# Altium integrated library Analog Devices Data Converters Analog-to-Digital Converters.IntLib: 2404 symbols (part 314 of 346)
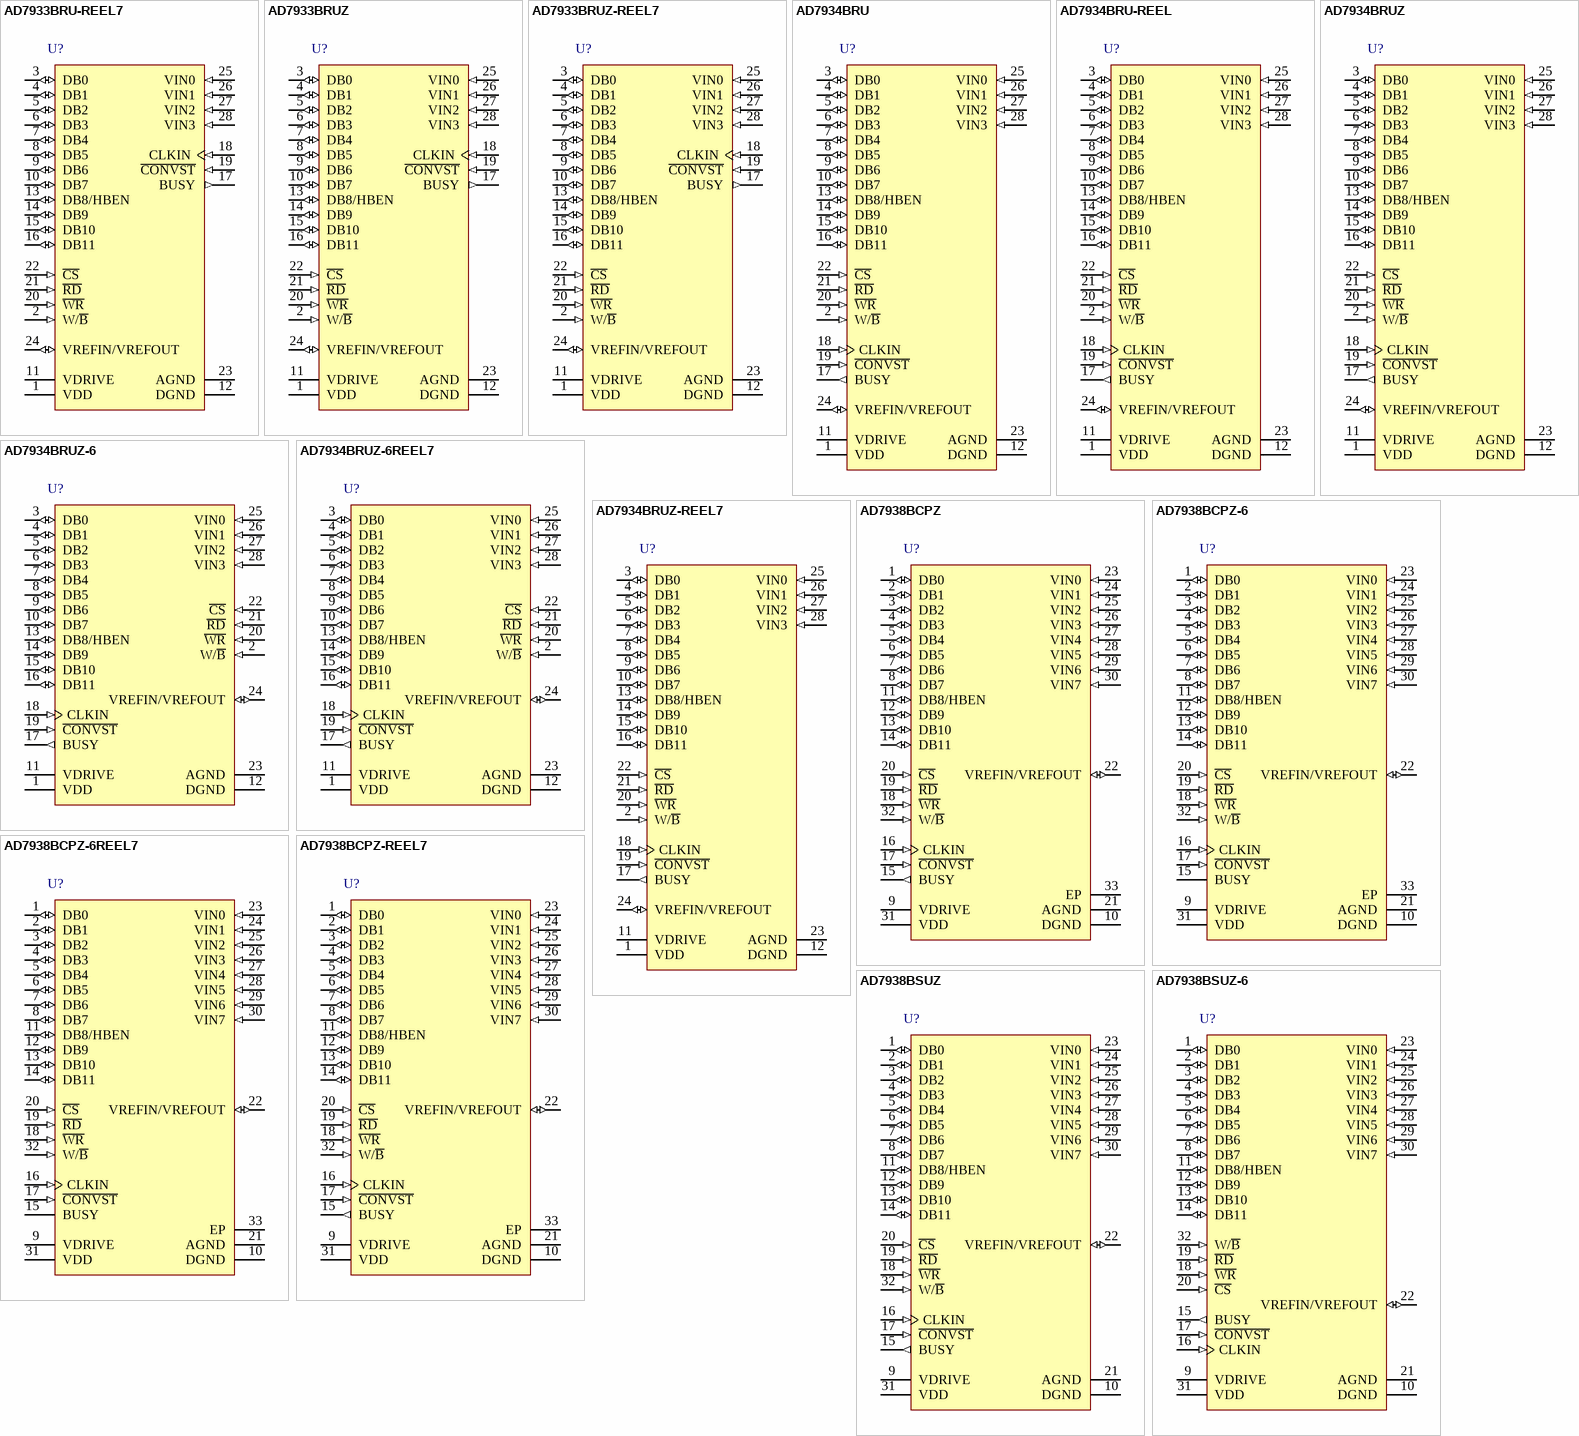
[diagram p422: symbols AD7933BRU-REEL7 to AD7938BSUZ-6]

## AD7938BCPZ
designator U?
Octal 12-Bit Analog-to-Digital Converter with Byte, Parallel Interface and Sequencer, 1.5MSPS, -40 to +85 degC, CP-32-2, Pb-Free, Tray; Generic Part Number: AD7938; Manufacturer: Analog Devices; PartNumber: AD7938BCPZ; Resolution (Bits): 12; Channels: 8; Throughput Rate (SPS): 1.5M; DatasheetVersion: Rev.C; PackageVersion: Jan-2005; PackageReference: CP-32-2; PackageDescription: 32-Lead Lead Frame Chip Scale Package [LFCSP_VQ] 5 x 5 mm Body, Very Thin Quad; Supplier 1: Digi-Key; Supplier Part Number 1: AD7938BCPZ-ND; Supplier 2: Mouser; Supplier Part Number 2: 584-AD7938BCPZ; Interface: Byte, Par; RoHS: Y; Packing: Tray; Mounting Technology: Surface Mount; Code_JEDEC: MO-220-VHHD-2; ComponentLink1Description: Manufacturer URL; ComponentLink1URL: http://www.analog.com/en/index.html; ComponentLink2Description: Datasheet; ComponentLink2URL: http://www.analog.com/static/imported-files/data_sheets/AD7938_7939.pdf; ComponentLink3Description: Package Specification; ComponentLink3URL: http://www.analog.com/static/imported-files/packages/414143737956480539664569CP_32_2.pdf; ComponentLink4Description: Product URL; ComponentLink4URL: http://www.analog.com/en/analog-to-digital-converters/ad-converters/ad7938/products/product.html
footprint CP-32-2_N (QFN, 32-Leads, Body 5x5mm, Pitch 0.5mm, Thermal Pad 3.1x3.1mm, IPC Medium Density)
footprint CP-32-2_L (QFN, 32-Leads, Body 5x5mm, Pitch 0.5mm, Thermal Pad 3.1x3.1mm, IPC High Density)
footprint CP-32-2_M (QFN, 32-Leads, Body 5x5mm, Pitch 0.5mm, Thermal Pad 3.1x3.1mm, IPC Low Density)
pins: 1 DB0 (io) "Data Bit 0 . Three-state parallel digital I/O pins that provide the conversion result and allow the control and shadow registers to be programmed. These pins are controlled by C\S\, R\D\, and W\R\. The logic high/low voltage (See Datasheet)", 2 DB1 (io) "Data Bit 1. Three-state parallel digital I/O pins that provide the conversion result and allow the control and shadow registers to be programmed. These pins are controlled by C\S\, R\D\, and W\R\. The logic high/low voltage (See Datasheet)", 3 DB2 (io) "Data Bit 2. Three-state parallel digital I/O pins that provide the conversion result and allow the control and shadow registers to be programmed. These pins are controlled by C\S\, R\D\, and W\R\. The logic high/low voltage (See Datasheet)", 4 DB3 (io) "Data Bit 3. Three-state parallel digital I/O pins that provide the conversion result and allow the control and shadow registers to be programmed. These pins are controlled by C\S\, R\D\, and W\R\. The logic high/low voltage (See Datasheet)", 5 DB4 (io) "Data Bit 4. Three-state parallel digital I/O pins that provide the conversion result and allow the control and shadow registers to be programmed. These pins are controlled by C\S\, R\D\, and W\R\. The logic high/low voltage (See Datasheet)", 6 DB5 (io) "Data Bit 5. Three-state parallel digital I/O pins that provide the conversion result and allow the control and shadow registers to be programmed. These pins are controlled by C\S\, R\D\, and W\R\. The logic high/low voltage (See Datasheet)", 7 DB6 (io) "Data Bit 6. Three-state parallel digital I/O pins that provide the conversion result and allow the control and shadow registers to be programmed. These pins are controlled by C\S\, R\D\, and W\R\. The logic high/low voltage (See Datasheet)", 8 DB7 (io) "Data Bit 7. Three-state parallel digital I/O pins that provide the conversion result and allow the control and shadow registers to be programmed. These pins are controlled by C\S\, R\D\, and W\R\. The logic high/low voltage (See Datasheet)", 9 VDRIVE (power) "Logic Power Supply Input. The voltage supplied at this pin determines at what voltage the parallel interface of the AD7938/AD7939 operates. This pin should be decoupled to DGND. The voltage at this pin can be different to (See Datasheet)", 10 DGND (power) "Digital Ground. This is the ground reference point for all digital circuitry on the AD7938/AD7939. This pin should connect to the DGND plane of a system. The DGND and AGND voltages should ideally be at the same potential and (See Datasheet)", 11 DB8/HBEN (io) "Data Bit 8/High Byte Enable. When W/B\ is high, this pin acts as Data Bit 8, a three-state I/O pin that is controlled by C\S\, R\D\, and W\R\. When W/B\ is low, this pin acts as the high byte enable pin. When HBEN is low, (See Datasheet)", 12 DB9 (io) "Data Bit 9 . Three-state parallel digital I/O pins that provide the conversion result and allow the control and shadow registers to be programmed in word mode. These pins are controlled by C\S\, R\D\, and W\R\. The logic (See Datasheet)", 13 DB10 (io) "Data Bit 10. Three-state parallel digital I/O pins that provide the conversion result and allow the control and shadow registers to be programmed in word mode. These pins are controlled by C\S\, R\D\, and W\R\. The logic (See Datasheet)", 14 DB11 (io) "Data Bit 11. Three-state parallel digital I/O pins that provide the conversion result and allow the control and shadow registers to be programmed in word mode. These pins are controlled by C\S\, R\D\, and W\R\. The logic (See Datasheet)", 15 BUSY (out) "Busy Output. Logic output that indicates the status of the conversion. The BUSY output goes high following the falling edge of CONVST and stays high for the duration of the conversion. Once the conversion is complete and the (See Datasheet)", 16 CLKIN (in) "Master Clock Input. The clock source for the conversion process is applied to this pin. Conversion time for the AD7938/AD7939 takes 13 clock cycles + t2. The frequency of the master clock input therefore determines the (See Datasheet)", 17 ~{CONVST} (in) "Conversion Start Input. A falling edge on C\O\N\V\S\T\ is used to initiate a conversion. The track-and-hold goes from trackmode to hold mode on the falling edge of C\O\N\V\S\T\ and the conversion process is initiated at this (See Datasheet)", 18 ~{WR} (in) "Write Input. Active low logic input used in conjunction with C\S\ to write data to the internal registers.", 19 ~{RD} (in) "Read Input. Active low logic input used in conjunction with C\S\ to access the conversion result. The conversion result is placed on the data bus following the falling edge of R\D\ read while C\S\ is low.", 20 ~{CS} (in) "Chip Select. Active low logic input used in conjunction with R\D\ and W\R\ to read conversion data or to write data to the internal registers.", 21 AGND (power) "Analog Ground. This is the ground reference point for all analog circuitry on the AD7938/AD7939. All analog input signals and any external reference signal should be referred to this AGND voltage. The AGND and DGND voltages (See Datasheet)", 22 VREFIN/VREFOUT (io) "Reference Input/Output. This pin is connected to the internal reference and is the reference source for the ADC. The nominal internal reference voltage is 2.5 V, which appears at this pin. It is recommended that this pin is (See Datasheet)", 23 VIN0 (in) "Analog Input 0. Eight analog input channels that are multiplexed into the on-chip track-andhold. The analog inputs can be programmed to be eight single-ended inputs, four fully differential pairs, four pseudo differential (See Datasheet)", 24 VIN1 (in) "Analog Input 1. Eight analog input channels that are multiplexed into the on-chip track-andhold. The analog inputs can be programmed to be eight single-ended inputs, four fully differential pairs, four pseudo differential (See Datasheet)", 25 VIN2 (in) "Analog Input 2. Eight analog input channels that are multiplexed into the on-chip track-andhold. The analog inputs can be programmed to be eight single-ended inputs, four fully differential pairs, four pseudo differential (See Datasheet)", 26 VIN3 (in) "Analog Input 3. Eight analog input channels that are multiplexed into the on-chip track-andhold. The analog inputs can be programmed to be eight single-ended inputs, four fully differential pairs, four pseudo differential (See Datasheet)", 27 VIN4 (in) "Analog Input 4. Eight analog input channels that are multiplexed into the on-chip track-andhold. The analog inputs can be programmed to be eight single-ended inputs, four fully differential pairs, four pseudo differential (See Datasheet)", 28 VIN5 (in) "Analog Input 5. Eight analog input channels that are multiplexed into the on-chip track-andhold. The analog inputs can be programmed to be eight single-ended inputs, four fully differential pairs, four pseudo differential (See Datasheet)", 29 VIN6 (in) "Analog Input 6. Eight analog input channels that are multiplexed into the on-chip track-andhold. The analog inputs can be programmed to be eight single-ended inputs, four fully differential pairs, four pseudo differential (See Datasheet)", 30 VIN7 (in) "Analog Input 7. Eight analog input channels that are multiplexed into the on-chip track-andhold. The analog inputs can be programmed to be eight single-ended inputs, four fully differential pairs, four pseudo differential (See Datasheet)", 31 VDD (power) "Power Supply Input. The VDD range for the AD7938/AD7939 is 2.7 V to 5.25 V. The supply should be decoupled to AGND with a 0.1 µF capacitor and a 10 µF tantalum capacitor.", 32 W/~{B} (in) "Word/Byte Input. When this input is logic high, data is transferred to and from the AD7938/AD7939 in 12-bit/10-bit words on the DB0/DB2 to DB11 pins. When this pin is logic low, byte transfer mode is enabled. Data and the (See Datasheet)", 33 EP (power) "Exposed Pad. The exposed pad is located on the underside of the package. Connect the EPAD to the ground plane of the PCB using multiple vias."